# EAGLE library part 57202-G52-04LF (library CYCFI_Con)
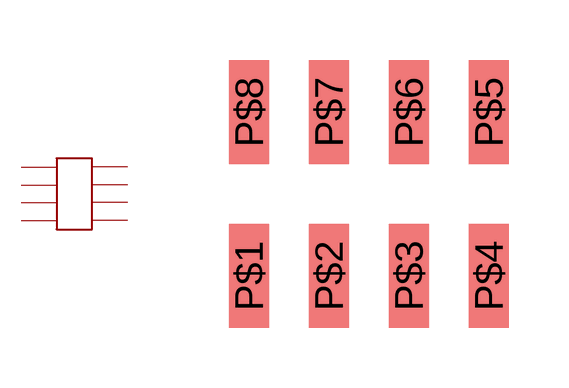
[diagram p0: symbol with the pads of 8P-SMD-2MM; footprint 8P-SMD-2MM]

Designator prefix -

## 57202-G52-04LF  [8P-SMD-2MM]
P$1  P$1
P$2  P$2
P$3  P$3
P$4  P$4
P$5  P$5
P$6  P$6
P$7  P$7
P$8  P$8

## Footprint 8P-SMD-2MM (pad centres in mm)
smd 1 x 2.6: P$1 -3,-2.05; P$2 -1,-2.05; P$3 1,-2.05; P$4 3,-2.05; P$5 3,2.05; P$6 1,2.05; P$7 -1,2.05; P$8 -3,2.05